# Altium schematic symbol library Bare 2.50mm headers.SchLib: 2 symbols
Pins are listed as number, name and electrical type; pins without a type are passive.

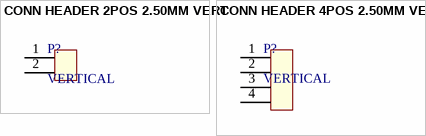
[diagram p0: symbols CONN HEADER 2POS 2.50MM VERT to CONN HEADER 4POS 2.50MM VERT]

## CONN HEADER 2POS 2.50MM VERT
designator P?, comment VERTICAL
CONN HEADER 2POS 2.50MM VERT
footprint CONN HEADER 2POS 2.50MM VERT
pins: 1, 2

## CONN HEADER 4POS 2.50MM VERT
designator P?, comment VERTICAL
CONN HEADER 4POS 2.50MM VERT
footprint CONN HEADER 4POS 2.50MM VERT
pins: 1, 2, 3, 4